# EAGLE library part TSM-103-XX-X-DV (library samtec)
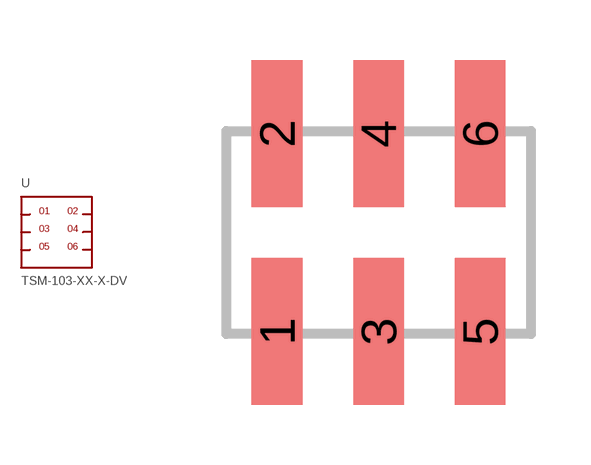
[diagram p21: symbol with the pads of TSM-103-XX-XXX-DV-A; footprint TSM-103-XX-XXX-DV-A]

Designator prefix -

## TSM-103-XX-X-DV  [TSM-103-XX-XXX-DV-A]
1  1
2  2
3  3
4  4
5  5
6  6

## Footprint TSM-103-XX-XXX-DV-A (pad centres in mm)
Terminal Strip, Dual Row Vertical, Surface Mount, 0.100 inch Pitch, 10 Pins
smd 1.27 x 3.683: 1 -2.54,-2.477; 2 -2.54,2.477; 3 0,-2.477; 4 0,2.477; 5 2.54,-2.477; 6 2.54,2.477